# EAGLE library part DS18B20 (library lib_stankus)
Maxim DS18B20 Farnell 1379772
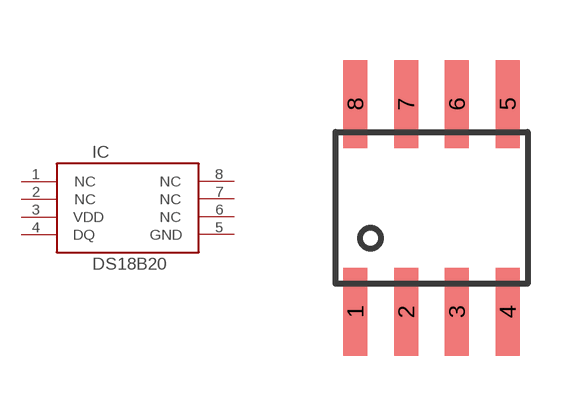
[diagram p95: symbol with the pads of SOIC8; footprint SOIC8]

Designator prefix IC

## DS18B20-SOIC8  [SOIC8]
1  NC  nc
2  NC  nc
3  VDD  pas
4  DQ  pas
5  GND  pas
6  NC  nc
7  NC  nc
8  NC  nc

## Footprint SOIC8 (pad centres in mm)
SOIC8
smd 0.6 x 2.2: 1 -1.905,-2.6; 2 -0.635,-2.6; 3 0.635,-2.6; 4 1.905,-2.6; 5 1.905,2.6; 6 0.635,2.6; 7 -0.635,2.6; 8 -1.905,2.6